# EAGLE library part 74*56 (library 74xx-eu)
FREQUENCY DIVIDER
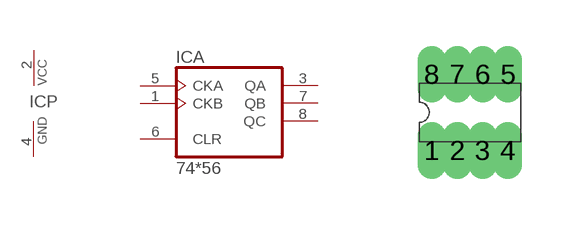
[diagram p41: symbol with the pads of DIL08; footprint DIL08]

Designator prefix IC; gates A=7456 P=PWRN

## 7456N, 74LS56N  [DIL08]
1  A:CKB  in
2  P:VCC  pwr
3  A:QA  out
4  P:GND  pwr
5  A:CKA  in
6  A:CLR  in
7  A:QB  out
8  A:QC  out

## Footprint DIL08 (pad centres in mm)
Dual In Line Package
drill 0.203 long: 1 -0.953,-0.953; 2 -0.318,-0.953; 3 0.318,-0.953; 4 0.953,-0.953; 5 0.953,0.953; 6 0.318,0.953; 7 -0.318,0.953; 8 -0.953,0.953